# Altium schematic symbol library Gagabiro.SchLib: 77 symbols
Pins are listed as number, name and electrical type; pins without a type are passive.

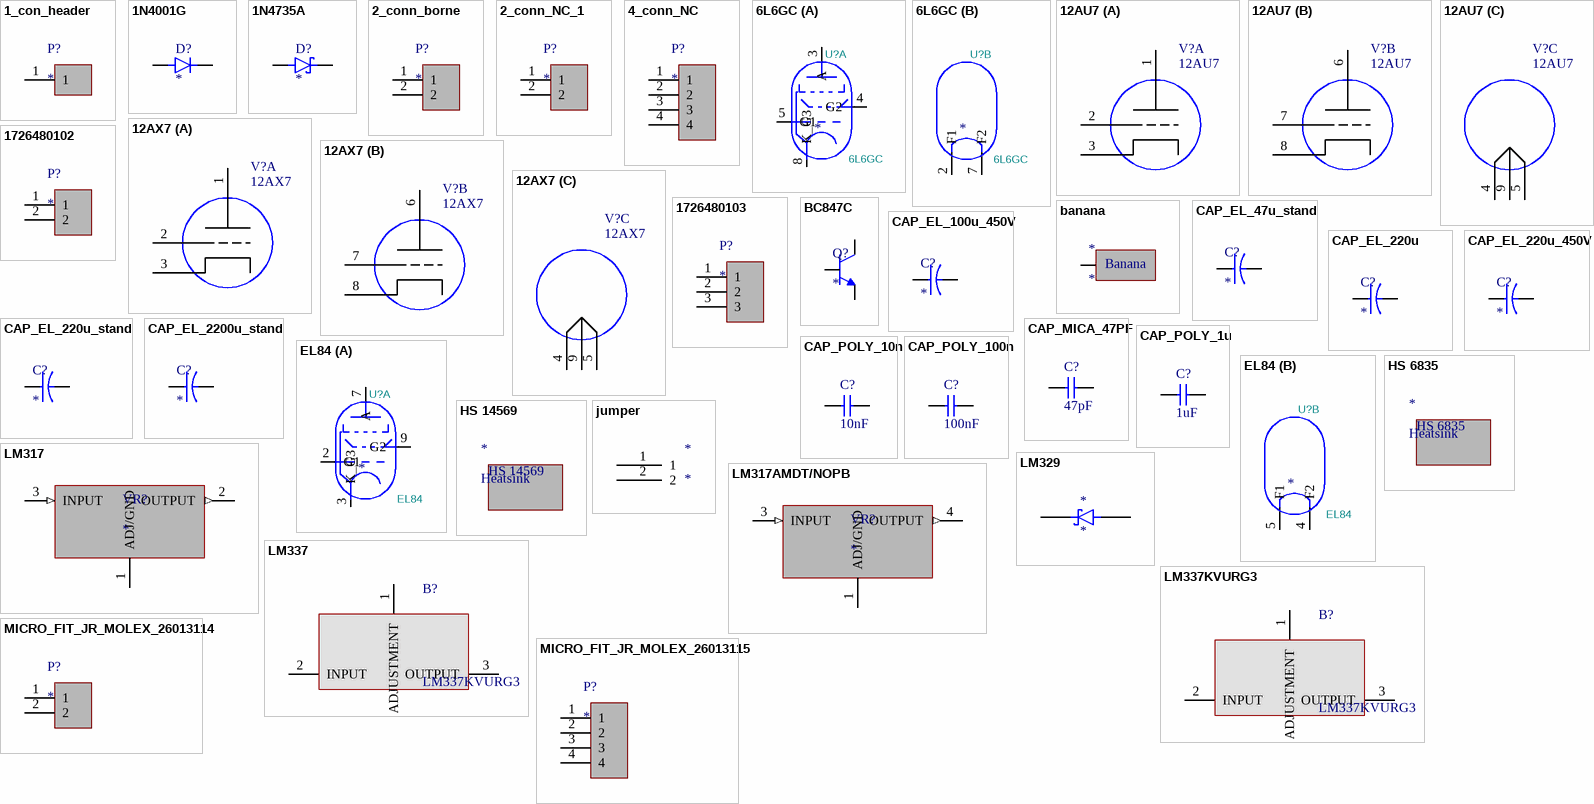
[diagram p0: symbols 1_con_header to MICRO_FIT_JR_MOLEX_26013115]

## 1_con_header
designator P?
Connector Header Surface Mount, Right Angle 2 position 0.079 (2.00mm); MP: S2B-PH-SM4-TB; MF: JST Sales; Price: None; Availability: In Stock; Package: None; Value: *; SnapEDA_Link: https://www.snapeda.com/parts/S2B-PH-SM4-TB/JST+Sales+America+Inc./view-part/?ref=snap; Purchase-URL: https://pricing.snapeda.com/search/part/S2B-PH-SM4-TB/?ref=eda; Check_prices: https://www.snapeda.com/parts/S2B-PH-SM4-TB/JST+Sales+America+Inc./view-part/?ref=eda
footprint SAMTEC_MTMM-101-X-X-S-X
pins: 1

## 1N4001G
designator D?
1A, 50V, Standard Recovery Rectifier; MF: Taiwan Semiconductor; MP: 1N4001G; Package: DO-41-2 Taiwan Semiconductor; Check_prices: https://www.snapeda.com/parts/1N4001G/Taiwan+Semiconductor/view-part/?ref=eda; Value: *; Price: None; Purchase-URL: https://pricing.snapeda.com/search/part/1N4001G/?ref=eda; SnapEDA_Link: https://www.snapeda.com/parts/1N4001G/Taiwan+Semiconductor/view-part/?ref=snap; Availability: In Stock
footprint DIOAD1036W78L470D235
pins: A, C K

## 1N4735A
designator D?
Zener Diode 6.2V 1W Â±5% Through Hole DO-204AL (DO-41); MF: ON Semiconductor; MP: 1N4735A; SnapEDA_Link: https://www.snapeda.com/parts/1N4735A/Onsemi/view-part/?ref=snap; Package: DO-41 ON Semiconductor; Value: *; Check_prices: https://www.snapeda.com/parts/1N4735A/Onsemi/view-part/?ref=eda
footprint DIOAD1036W78L463D272
pins: 1 K, 2 A

## 2_conn_borne
designator P?
Connector Header Surface Mount, Right Angle 2 position 0.079 (2.00mm); MP: S2B-PH-SM4-TB; MF: JST Sales; Price: None; Availability: In Stock; Package: None; Value: *; SnapEDA_Link: https://www.snapeda.com/parts/S2B-PH-SM4-TB/JST+Sales+America+Inc./view-part/?ref=snap; Purchase-URL: https://pricing.snapeda.com/search/part/S2B-PH-SM4-TB/?ref=eda; Check_prices: https://www.snapeda.com/parts/S2B-PH-SM4-TB/JST+Sales+America+Inc./view-part/?ref=eda
footprint 691101710002 (5,00mm - modular - blue - Horizontal entry with pressure clamp - 12,6mm height - 02p)
pins: 1, 2

## 2_conn_NC_1
designator P?
Connector Header Surface Mount, Right Angle 2 position 0.079 (2.00mm); MP: S2B-PH-SM4-TB; MF: JST Sales; Price: None; Availability: In Stock; Package: None; Value: *; SnapEDA_Link: https://www.snapeda.com/parts/S2B-PH-SM4-TB/JST+Sales+America+Inc./view-part/?ref=snap; Purchase-URL: https://pricing.snapeda.com/search/part/S2B-PH-SM4-TB/?ref=eda; Check_prices: https://www.snapeda.com/parts/S2B-PH-SM4-TB/JST+Sales+America+Inc./view-part/?ref=eda
footprint 2_conn_NC
pins: 1, 2

## 4_conn_NC
designator P?
Connector Header Surface Mount, Right Angle 2 position 0.079 (2.00mm); MP: S2B-PH-SM4-TB; MF: JST Sales; Price: None; Availability: In Stock; Package: None; Value: *; SnapEDA_Link: https://www.snapeda.com/parts/S2B-PH-SM4-TB/JST+Sales+America+Inc./view-part/?ref=snap; Purchase-URL: https://pricing.snapeda.com/search/part/S2B-PH-SM4-TB/?ref=eda; Check_prices: https://www.snapeda.com/parts/S2B-PH-SM4-TB/JST+Sales+America+Inc./view-part/?ref=eda
footprint 4_conn_NC
pins: 1, 2, 3, 4

## 6L6GC
designator U?  value 6L6GC
Footprint: Valve:Valve_Noval_P
footprint VALVE-OCTAL
part A pins: 3 A, 4 G2, 5 G1, 8 K_G3
part B pins: 2 F1, 7 F2

## 12AU7
designator V?
TUNGSOL 12AU7 NEW PRD PREAMP TB; MF: RCA; MP: 12AX7; SnapEDA_Link: https://www.snapeda.com/parts/12AX7/RCA/view-part/?ref=snap; Package: None; Check_prices: https://www.snapeda.com/parts/12AX7/RCA/view-part/?ref=eda; Value: *
footprint 12A_7
part A pins: 1, 2, 3
part B pins: 6, 7, 8
part C pins: 4, 5, 9

## 12AX7
designator V?
TUNGSOL 12AX7 NEW PRD PREAMP TB; MF: RCA; SnapEDA_Link: https://www.snapeda.com/parts/12AX7/RCA/view-part/?ref=snap; Package: None; MP: 12AX7; Check_prices: https://www.snapeda.com/parts/12AX7/RCA/view-part/?ref=eda; Value: *
footprint 12A_7
part A pins: 1, 2, 3
part B pins: 6, 7, 8
part C pins: 4, 5, 9

## 1726480102
designator P?
Connector Header Surface Mount, Right Angle 2 position 0.079 (2.00mm); MP: S2B-PH-SM4-TB; MF: JST Sales; Price: None; Availability: In Stock; Package: None; Value: *; SnapEDA_Link: https://www.snapeda.com/parts/S2B-PH-SM4-TB/JST+Sales+America+Inc./view-part/?ref=snap; Purchase-URL: https://pricing.snapeda.com/search/part/S2B-PH-SM4-TB/?ref=eda; Check_prices: https://www.snapeda.com/parts/S2B-PH-SM4-TB/JST+Sales+America+Inc./view-part/?ref=eda
footprint MOLEX_1726480102
pins: 1, 2

## 1726480103
designator P?
Connector Header Surface Mount, Right Angle 2 position 0.079 (2.00mm); MP: S2B-PH-SM4-TB; MF: JST Sales; Price: None; Availability: In Stock; Package: None; Value: *; SnapEDA_Link: https://www.snapeda.com/parts/S2B-PH-SM4-TB/JST+Sales+America+Inc./view-part/?ref=snap; Purchase-URL: https://pricing.snapeda.com/search/part/S2B-PH-SM4-TB/?ref=eda; Check_prices: https://www.snapeda.com/parts/S2B-PH-SM4-TB/JST+Sales+America+Inc./view-part/?ref=eda
footprint MOLEX_1726480103
pins: 1, 2, 3

## banana
designator *
footprint banana
pins: 1
text: Banana

## BC847C
designator Q?
Bipolar (BJT) Transistor NPN 45 V 100 mA 300MHz 250 mW Surface Mount SOT-23-3 (TO-236); MF: Diotec Semiconductor; MP: BC847C; Price: None; SnapEDA_Link: https://www.snapeda.com/parts/BC847C/Diotec/view-part/?ref=snap; Purchase-URL: https://pricing.snapeda.com/search/part/BC847C/?ref=eda; Availability: In Stock; Package: SOT-23-3 Diotec; Check_prices: https://www.snapeda.com/parts/BC847C/Diotec/view-part/?ref=eda; Value: *
footprint TRANS_BC847C
pins: 1 B, 2 E, 3 C

## CAP_EL_47u_stand
designator C?
220F 16V Aluminum Electrolytic Capacitors Radial, Can 1000 Hrs @ 105C; MP: EEU-HD1C221B; Value: 47uF; MF: Panasonic; Availability: In Stock; Purchase-URL: https://pricing.snapeda.com/search/part/EEU-HD1C221B/?ref=eda; Package: RADIAL-2 Panasonic; Check_prices: https://www.snapeda.com/parts/EEU-HD1C221B/Panasonic/view-part/?ref=eda; SnapEDA_Link: https://www.snapeda.com/parts/EEU-HD1C221B/Panasonic/view-part/?ref=snap; Price: None
footprint CAPPRD500W50D630H1120_stand
pins: N, P

## CAP_EL_100u_450V
designator C?
220F 16V Aluminum Electrolytic Capacitors Radial, Can 1000 Hrs @ 105C; MP: EEU-HD1C221B; Value: 100uF; MF: Panasonic; Availability: In Stock; Purchase-URL: https://pricing.snapeda.com/search/part/EEU-HD1C221B/?ref=eda; Package: RADIAL-2 Panasonic; Check_prices: https://www.snapeda.com/parts/EEU-HD1C221B/Panasonic/view-part/?ref=eda; SnapEDA_Link: https://www.snapeda.com/parts/EEU-HD1C221B/Panasonic/view-part/?ref=snap; Price: None
footprint CAPPRD500W50D630H1120_stand_100_450V
pins: N, P

## CAP_EL_220u
designator C?
220F 16V Aluminum Electrolytic Capacitors Radial, Can 1000 Hrs @ 105C; MP: EEU-HD1C221B; Value: 220uF; MF: Panasonic; Availability: In Stock; Purchase-URL: https://pricing.snapeda.com/search/part/EEU-HD1C221B/?ref=eda; Package: RADIAL-2 Panasonic; Check_prices: https://www.snapeda.com/parts/EEU-HD1C221B/Panasonic/view-part/?ref=eda; SnapEDA_Link: https://www.snapeda.com/parts/EEU-HD1C221B/Panasonic/view-part/?ref=snap; Price: None
footprint CAPPRD500W50D630H1120
pins: N, P

## CAP_EL_220u_450V
designator C?
220F 16V Aluminum Electrolytic Capacitors Radial, Can 1000 Hrs @ 105C; MP: EEU-HD1C221B; Value: 220uF; MF: Panasonic; Availability: In Stock; Purchase-URL: https://pricing.snapeda.com/search/part/EEU-HD1C221B/?ref=eda; Package: RADIAL-2 Panasonic; Check_prices: https://www.snapeda.com/parts/EEU-HD1C221B/Panasonic/view-part/?ref=eda; SnapEDA_Link: https://www.snapeda.com/parts/EEU-HD1C221B/Panasonic/view-part/?ref=snap; Price: None
footprint CAPPRD500W50D630H1120_stand_25x50
pins: N, P

## CAP_EL_220u_stand
designator C?
220F 16V Aluminum Electrolytic Capacitors Radial, Can 1000 Hrs @ 105C; MP: EEU-HD1C221B; Value: 220uF; MF: Panasonic; Availability: In Stock; Purchase-URL: https://pricing.snapeda.com/search/part/EEU-HD1C221B/?ref=eda; Package: RADIAL-2 Panasonic; Check_prices: https://www.snapeda.com/parts/EEU-HD1C221B/Panasonic/view-part/?ref=eda; SnapEDA_Link: https://www.snapeda.com/parts/EEU-HD1C221B/Panasonic/view-part/?ref=snap; Price: None
footprint CAPPRD500W50D630H1120_stand
pins: N, P

## CAP_EL_2200u_stand
designator C?
220F 16V Aluminum Electrolytic Capacitors Radial, Can 1000 Hrs @ 105C; MP: EEU-HD1C221B; Value: 2200uF; MF: Panasonic; Availability: In Stock; Purchase-URL: https://pricing.snapeda.com/search/part/EEU-HD1C221B/?ref=eda; Package: RADIAL-2 Panasonic; Check_prices: https://www.snapeda.com/parts/EEU-HD1C221B/Panasonic/view-part/?ref=eda; SnapEDA_Link: https://www.snapeda.com/parts/EEU-HD1C221B/Panasonic/view-part/?ref=snap; Price: None
footprint CAPPRD500W50D630H1120_stand_22x40
pins: N, P

## CAP_MICA_47PF
designator C?, comment 47pF
Capacitor, Silver Mica; Part Number: CMICA_47PF; Value: 47pF
footprint CAP_MICA
pins: 1, 2

## CAP_POLY_1u
designator C?, comment 1uF
Capacitor, Silver Mica; Part Number: CMICA_47PF; Value: 1uF
footprint CAP_panassonic_1u_450V
pins: 1, 2

## CAP_POLY_10n
designator C?, comment 10nF
Capacitor, Silver Mica; Part Number: CMICA_47PF; Value: 10nF
footprint CAP_POLI_103
pins: 1, 2

## CAP_POLY_100n
designator C?, comment 100nF
Capacitor, Silver Mica; Part Number: CMICA_47PF; Value: 100nF
footprint CAP_panassonic_100n_450V
pins: 1, 2

## EL84
designator U?  value EL84
Footprint: Valve:Valve_Noval_P
footprint EL84
part A pins: 2 G1, 3 K_G3, 7 A, 9 G2
part B pins: 4 F2, 5 F1

## HS 6835
designator *, comment Heatsink
footprint heatsink_HS_6835

## HS 14569
designator *, comment Heatsink
footprint heatsink

## jumper
designator *
footprint jumper_AWG18
pins: 1, 2

## LM317
designator VR?
MP: LM317AMDT/NOPB; Package: None; Price: None; Availability: Unavailable; Value: *
footprint TO254P1009X445X1985-3
pins: 1 ADJ/GND (power), 2 OUTPUT (out), 3 INPUT (in)

## LM317AMDT/NOPB
designator VR?
MP: LM317AMDT/NOPB; Package: None; Price: None; Availability: Unavailable; Value: *
footprint TO228P991X255-3N
pins: 1 ADJ/GND (power), 3 INPUT (in), 4 OUTPUT (out)

## LM329
designator *
footprint TO92127P495H495-3
pins: 2 (power), 3 (power)

## LM337
designator B?, comment LM337KVURG3
3 Pin 1.5A Adjustable Negative Voltage Regulator; Manufacturer_Name: Texas Instruments; Geometry.Height: 2.65mm; Mouser Part Number: 595-LM337KVURG3; Mouser Price/Stock: https://www.mouser.co.uk/ProductDetail/Texas-Instruments/LM337KVURG3?qs=iSMark9AYDXYOGB3Dr0rVg%3D%3D; Manufacturer_Part_Number: LM337KVURG3; Datasheet Link: http://www.ti.com/lit/gpn/lm337
footprint lm317
pins: 1 ADJUSTMENT, 2 INPUT, 3 OUTPUT

## LM337KVURG3
designator B?
3 Pin 1.5A Adjustable Negative Voltage Regulator; Manufacturer_Name: Texas Instruments; Geometry.Height: 2.65mm; Mouser Part Number: 595-LM337KVURG3; Mouser Price/Stock: https://www.mouser.co.uk/ProductDetail/Texas-Instruments/LM337KVURG3?qs=iSMark9AYDXYOGB3Dr0rVg%3D%3D; Manufacturer_Part_Number: LM337KVURG3; Datasheet Link: http://www.ti.com/lit/gpn/lm337
footprint LM337KVURG3
pins: 1 ADJUSTMENT, 2 INPUT, 3 OUTPUT

## MICRO_FIT_JR_MOLEX_26013114
designator P?
Connector Header Surface Mount, Right Angle 2 position 0.079 (2.00mm); MP: S2B-PH-SM4-TB; MF: JST Sales; Price: None; Availability: In Stock; Package: None; Value: *; SnapEDA_Link: https://www.snapeda.com/parts/S2B-PH-SM4-TB/JST+Sales+America+Inc./view-part/?ref=snap; Purchase-URL: https://pricing.snapeda.com/search/part/S2B-PH-SM4-TB/?ref=eda; Check_prices: https://www.snapeda.com/parts/S2B-PH-SM4-TB/JST+Sales+America+Inc./view-part/?ref=eda
footprint MOLEX_26013114
pins: 1, 2

## MICRO_FIT_JR_MOLEX_26013115
designator P?
Connector Header Surface Mount, Right Angle 2 position 0.079 (2.00mm); MP: S2B-PH-SM4-TB; MF: JST Sales; Price: None; Availability: In Stock; Package: None; Value: *; SnapEDA_Link: https://www.snapeda.com/parts/S2B-PH-SM4-TB/JST+Sales+America+Inc./view-part/?ref=snap; Purchase-URL: https://pricing.snapeda.com/search/part/S2B-PH-SM4-TB/?ref=eda; Check_prices: https://www.snapeda.com/parts/S2B-PH-SM4-TB/JST+Sales+America+Inc./view-part/?ref=eda
footprint MOLEX_26013115
pins: 1, 2, 3, 4

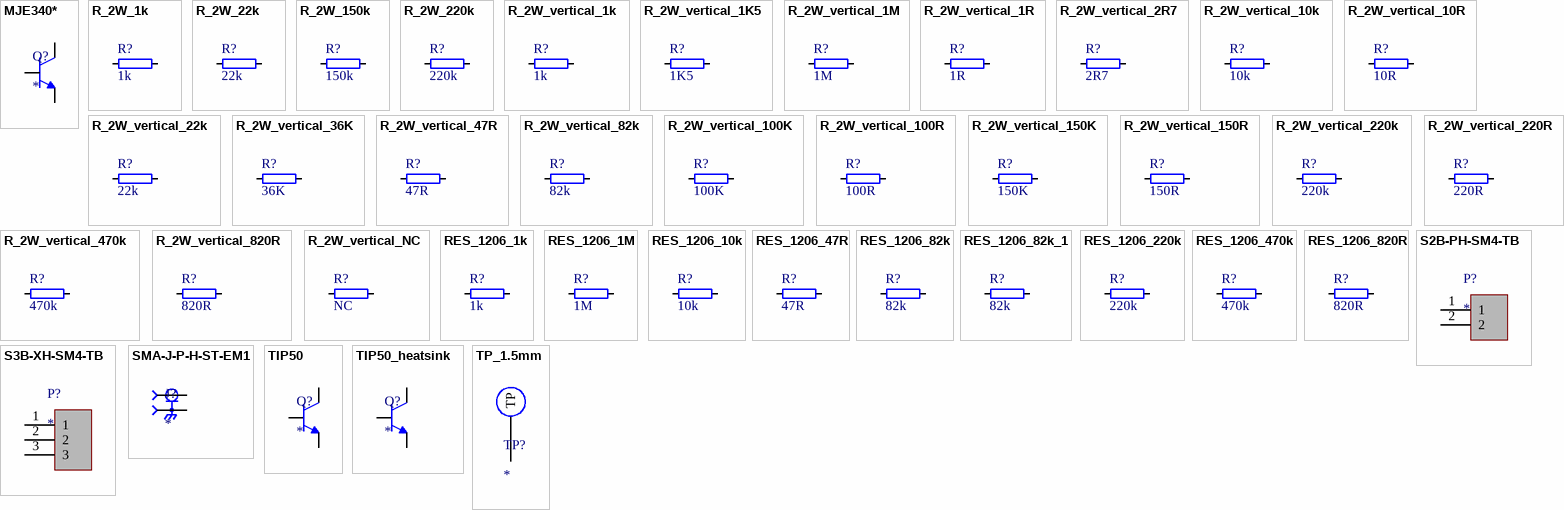
[diagram p1: symbols MJE340* to TP_1.5mm]

## MJE340*
designator Q?
Bipolar (BJT) Transistor NPN 300 V 500 mA - 20.8 W Through Hole SOT-32-3; MF: STMicroelectronics; MP: MJE340; SnapEDA_Link: https://www.snapeda.com/parts/MJE340/STMicroelectronics/view-part/?ref=snap; Package: TO-126-3 Motorola; Value: *; Check_prices: https://www.snapeda.com/parts/MJE340/STMicroelectronics/view-part/?ref=eda
footprint TO126
pins: 1 E, 2 C, 3 B

## R_2W_1k
designator R?, comment 1k
Resistor, 2W; Part Number: R2W; ComponentLink1URL: N.A.; ComponentLink1Description: Datasheet; ComponentLink2URL: N.A.; ComponentLink2Description: Supplier link; Author: colombari; Value: 1k
footprint RES_2W
pins: 1, 2

## R_2W_22k
designator R?, comment 22k
Resistor, 2W; Part Number: R2W; ComponentLink1URL: N.A.; ComponentLink1Description: Datasheet; ComponentLink2URL: N.A.; ComponentLink2Description: Supplier link; Author: colombari; Value: 22k
footprint RES_2W
pins: 1, 2

## R_2W_150k
designator R?, comment 150k
Resistor, 2W; Part Number: R2W; ComponentLink1URL: N.A.; ComponentLink1Description: Datasheet; ComponentLink2URL: N.A.; ComponentLink2Description: Supplier link; Author: colombari; Value: 150k
footprint RES_2W
pins: 1, 2

## R_2W_220k
designator R?, comment 220k
Resistor, 2W; Part Number: R2W; ComponentLink1URL: N.A.; ComponentLink1Description: Datasheet; ComponentLink2URL: N.A.; ComponentLink2Description: Supplier link; Author: colombari; Value: 220k
footprint RES_2W
pins: 1, 2

## R_2W_vertical_1k
designator R?, comment 1k
Resistor, 2W; Part Number: R2W; ComponentLink1URL: N.A.; ComponentLink1Description: Datasheet; ComponentLink2URL: N.A.; ComponentLink2Description: Supplier link; Author: colombari; Value: 1k
footprint RES_2W_vertical
pins: 1, 2

## R_2W_vertical_1K5
designator R?, comment 1K5
Resistor, 2W; Part Number: R2W; ComponentLink1URL: N.A.; ComponentLink1Description: Datasheet; ComponentLink2URL: N.A.; ComponentLink2Description: Supplier link; Author: colombari; Value: 1K5
footprint RES_2W_vertical
pins: 1, 2

## R_2W_vertical_1M
designator R?, comment 1M
Resistor, 2W; Part Number: R2W; ComponentLink1URL: N.A.; ComponentLink1Description: Datasheet; ComponentLink2URL: N.A.; ComponentLink2Description: Supplier link; Author: colombari; Value: 1M
footprint RES_2W_vertical
pins: 1, 2

## R_2W_vertical_1R
designator R?, comment 1R
Resistor, 2W; Part Number: R2W; ComponentLink1URL: N.A.; ComponentLink1Description: Datasheet; ComponentLink2URL: N.A.; ComponentLink2Description: Supplier link; Author: colombari; Value: 1R
footprint RES_2W_vertical
pins: 1, 2

## R_2W_vertical_2R7
designator R?, comment 2R7
Resistor, 2W; Part Number: R2W; ComponentLink1URL: N.A.; ComponentLink1Description: Datasheet; ComponentLink2URL: N.A.; ComponentLink2Description: Supplier link; Author: colombari; Value: 2R7
footprint RES_2W_vertical
pins: 1, 2

## R_2W_vertical_10k
designator R?, comment 10k
Resistor, 2W; Part Number: R2W; ComponentLink1URL: N.A.; ComponentLink1Description: Datasheet; ComponentLink2URL: N.A.; ComponentLink2Description: Supplier link; Author: colombari; Value: 10k
footprint RES_2W_vertical
pins: 1, 2

## R_2W_vertical_10R
designator R?, comment 10R
Resistor, 2W; Part Number: R2W; ComponentLink1URL: N.A.; ComponentLink1Description: Datasheet; ComponentLink2URL: N.A.; ComponentLink2Description: Supplier link; Author: colombari; Value: 10R
footprint RES_2W_vertical
pins: 1, 2

## R_2W_vertical_22k
designator R?, comment 22k
Resistor, 2W; Part Number: R2W; ComponentLink1URL: N.A.; ComponentLink1Description: Datasheet; ComponentLink2URL: N.A.; ComponentLink2Description: Supplier link; Author: colombari; Value: 22k
footprint RES_2W_vertical
pins: 1, 2

## R_2W_vertical_36K
designator R?, comment 36K
Resistor, 2W; Part Number: R2W; ComponentLink1URL: N.A.; ComponentLink1Description: Datasheet; ComponentLink2URL: N.A.; ComponentLink2Description: Supplier link; Author: colombari; Value: 36K
footprint RES_2W_vertical
pins: 1, 2

## R_2W_vertical_47R
designator R?, comment 47R
Resistor, 2W; Part Number: R2W; ComponentLink1URL: N.A.; ComponentLink1Description: Datasheet; ComponentLink2URL: N.A.; ComponentLink2Description: Supplier link; Author: colombari; Value: 47R
footprint RES_2W_vertical
pins: 1, 2

## R_2W_vertical_82k
designator R?, comment 82k
Resistor, 2W; Part Number: R2W; ComponentLink1URL: N.A.; ComponentLink1Description: Datasheet; ComponentLink2URL: N.A.; ComponentLink2Description: Supplier link; Author: colombari; Value: 82k
footprint RES_2W_vertical
pins: 1, 2

## R_2W_vertical_100K
designator R?, comment 100K
Resistor, 2W; Part Number: R2W; ComponentLink1URL: N.A.; ComponentLink1Description: Datasheet; ComponentLink2URL: N.A.; ComponentLink2Description: Supplier link; Author: colombari; Value: 100K
footprint RES_2W_vertical
pins: 1, 2

## R_2W_vertical_100R
designator R?, comment 100R
Resistor, 2W; Part Number: R2W; ComponentLink1URL: N.A.; ComponentLink1Description: Datasheet; ComponentLink2URL: N.A.; ComponentLink2Description: Supplier link; Author: colombari; Value: 100R
footprint RES_2W_vertical
pins: 1, 2

## R_2W_vertical_150K
designator R?, comment 150K
Resistor, 2W; Part Number: R2W; ComponentLink1URL: N.A.; ComponentLink1Description: Datasheet; ComponentLink2URL: N.A.; ComponentLink2Description: Supplier link; Author: colombari; Value: 150K
footprint RES_2W_vertical
pins: 1, 2

## R_2W_vertical_150R
designator R?, comment 150R
Resistor, 2W; Part Number: R2W; ComponentLink1URL: N.A.; ComponentLink1Description: Datasheet; ComponentLink2URL: N.A.; ComponentLink2Description: Supplier link; Author: colombari; Value: 150R
footprint RES_2W_vertical
pins: 1, 2

## R_2W_vertical_220k
designator R?, comment 220k
Resistor, 2W; Part Number: R2W; ComponentLink1URL: N.A.; ComponentLink1Description: Datasheet; ComponentLink2URL: N.A.; ComponentLink2Description: Supplier link; Author: colombari; Value: 220k
footprint RES_2W_vertical
pins: 1, 2

## R_2W_vertical_220R
designator R?, comment 220R
Resistor, 2W; Part Number: R2W; ComponentLink1URL: N.A.; ComponentLink1Description: Datasheet; ComponentLink2URL: N.A.; ComponentLink2Description: Supplier link; Author: colombari; Value: 220R
footprint RES_2W_vertical
pins: 1, 2

## R_2W_vertical_470k
designator R?, comment 470k
Resistor, 2W; Part Number: R2W; ComponentLink1URL: N.A.; ComponentLink1Description: Datasheet; ComponentLink2URL: N.A.; ComponentLink2Description: Supplier link; Author: colombari; Value: 470k
footprint RES_2W_vertical
pins: 1, 2

## R_2W_vertical_820R
designator R?, comment 820R
Resistor, 2W; Part Number: R2W; ComponentLink1URL: N.A.; ComponentLink1Description: Datasheet; ComponentLink2URL: N.A.; ComponentLink2Description: Supplier link; Author: colombari; Value: 820R
footprint RES_2W_vertical
pins: 1, 2

## R_2W_vertical_NC
designator R?, comment NC
Resistor, 2W; Part Number: R2W; ComponentLink1URL: N.A.; ComponentLink1Description: Datasheet; ComponentLink2URL: N.A.; ComponentLink2Description: Supplier link; Author: colombari; Value: NC
footprint RES_2W_vertical
pins: 1, 2

## RES_1206_1k
designator R?, comment 1k
Resistor, ±1%, 0.05W; Part Number: R0201-470; Manufacturer: N.A.; Note: Chip Res 1%; Pad Count: 2; Manufacturer Part Number: N.A.; ComponentLink1URL: N.A.; ComponentLink1Description: Datasheet; ComponentLink2URL: N.A.; ComponentLink2Description: Supplier link; HelpURL: N.A.; Footprint Doc: 0201; LatestRevisionDate: 2014-11-13; Published: 2014-11-13; Value: 1k; Artikkelnr Noca: N.A.; Part number IPS: N.A.; Supplier 1: N.A.; Supplier Part Number 1: N.A.; Supplier 2: N.A.; Supplier Part Number 2: N.A.; Component Class: Resistors; PartId: 100100037; Author: rsk; Part number Norautron: N.A.
footprint RES_ERJU08J154V
pins: 1, 2

## RES_1206_1M
designator R?, comment 1M
Resistor, ±1%, 0.05W; Part Number: R0201-470; Manufacturer: N.A.; Note: Chip Res 1%; Pad Count: 2; Manufacturer Part Number: N.A.; ComponentLink1URL: N.A.; ComponentLink1Description: Datasheet; ComponentLink2URL: N.A.; ComponentLink2Description: Supplier link; HelpURL: N.A.; Footprint Doc: 0201; LatestRevisionDate: 2014-11-13; Published: 2014-11-13; Value: 1M; Artikkelnr Noca: N.A.; Part number IPS: N.A.; Supplier 1: N.A.; Supplier Part Number 1: N.A.; Supplier 2: N.A.; Supplier Part Number 2: N.A.; Component Class: Resistors; PartId: 100100037; Author: rsk; Part number Norautron: N.A.
footprint RES_ERJU08J154V
pins: 1, 2

## RES_1206_10k
designator R?, comment 10k
Resistor, ±1%, 0.05W; Part Number: R0201-470; Manufacturer: N.A.; Note: Chip Res 1%; Pad Count: 2; Manufacturer Part Number: N.A.; ComponentLink1URL: N.A.; ComponentLink1Description: Datasheet; ComponentLink2URL: N.A.; ComponentLink2Description: Supplier link; HelpURL: N.A.; Footprint Doc: 0201; LatestRevisionDate: 2014-11-13; Published: 2014-11-13; Value: 10k; Artikkelnr Noca: N.A.; Part number IPS: N.A.; Supplier 1: N.A.; Supplier Part Number 1: N.A.; Supplier 2: N.A.; Supplier Part Number 2: N.A.; Component Class: Resistors; PartId: 100100037; Author: rsk; Part number Norautron: N.A.
footprint RES_ERJU08J154V
pins: 1, 2

## RES_1206_47R
designator R?, comment 47R
Resistor, ±1%, 0.05W; Part Number: R0201-470; Manufacturer: N.A.; Note: Chip Res 1%; Pad Count: 2; Manufacturer Part Number: N.A.; ComponentLink1URL: N.A.; ComponentLink1Description: Datasheet; ComponentLink2URL: N.A.; ComponentLink2Description: Supplier link; HelpURL: N.A.; Footprint Doc: 0201; LatestRevisionDate: 2014-11-13; Published: 2014-11-13; Value: 47R; Artikkelnr Noca: N.A.; Part number IPS: N.A.; Supplier 1: N.A.; Supplier Part Number 1: N.A.; Supplier 2: N.A.; Supplier Part Number 2: N.A.; Component Class: Resistors; PartId: 100100037; Author: rsk; Part number Norautron: N.A.
footprint RES_ERJU08J154V
pins: 1, 2

## RES_1206_82k
designator R?, comment 82k
Resistor, ±1%, 0.05W; Part Number: R0201-470; Manufacturer: N.A.; Note: Chip Res 1%; Pad Count: 2; Manufacturer Part Number: N.A.; ComponentLink1URL: N.A.; ComponentLink1Description: Datasheet; ComponentLink2URL: N.A.; ComponentLink2Description: Supplier link; HelpURL: N.A.; Footprint Doc: 0201; LatestRevisionDate: 2014-11-13; Published: 2014-11-13; Value: 82k; Artikkelnr Noca: N.A.; Part number IPS: N.A.; Supplier 1: N.A.; Supplier Part Number 1: N.A.; Supplier 2: N.A.; Supplier Part Number 2: N.A.; Component Class: Resistors; PartId: 100100037; Author: rsk; Part number Norautron: N.A.
footprint RES_ERJU08J154V
pins: 1, 2

## RES_1206_82k_1
designator R?, comment 82k
Resistor, ±1%, 0.05W; Part Number: R0201-470; Manufacturer: N.A.; Note: Chip Res 1%; Pad Count: 2; Manufacturer Part Number: N.A.; ComponentLink1URL: N.A.; ComponentLink1Description: Datasheet; ComponentLink2URL: N.A.; ComponentLink2Description: Supplier link; HelpURL: N.A.; Footprint Doc: 0201; LatestRevisionDate: 2014-11-13; Published: 2014-11-13; Value: 82k; Artikkelnr Noca: N.A.; Part number IPS: N.A.; Supplier 1: N.A.; Supplier Part Number 1: N.A.; Supplier 2: N.A.; Supplier Part Number 2: N.A.; Component Class: Resistors; PartId: 100100037; Author: rsk; Part number Norautron: N.A.
footprint RES_ERJU08J154V
pins: 1, 2

## RES_1206_220k
designator R?, comment 220k
Resistor, ±1%, 0.05W; Part Number: R0201-470; Manufacturer: N.A.; Note: Chip Res 1%; Pad Count: 2; Manufacturer Part Number: N.A.; ComponentLink1URL: N.A.; ComponentLink1Description: Datasheet; ComponentLink2URL: N.A.; ComponentLink2Description: Supplier link; HelpURL: N.A.; Footprint Doc: 0201; LatestRevisionDate: 2014-11-13; Published: 2014-11-13; Value: 220k; Artikkelnr Noca: N.A.; Part number IPS: N.A.; Supplier 1: N.A.; Supplier Part Number 1: N.A.; Supplier 2: N.A.; Supplier Part Number 2: N.A.; Component Class: Resistors; PartId: 100100037; Author: rsk; Part number Norautron: N.A.
footprint RES_ERJU08J154V
pins: 1, 2

## RES_1206_470k
designator R?, comment 470k
Resistor, ±1%, 0.05W; Part Number: R0201-470; Manufacturer: N.A.; Note: Chip Res 1%; Pad Count: 2; Manufacturer Part Number: N.A.; ComponentLink1URL: N.A.; ComponentLink1Description: Datasheet; ComponentLink2URL: N.A.; ComponentLink2Description: Supplier link; HelpURL: N.A.; Footprint Doc: 0201; LatestRevisionDate: 2014-11-13; Published: 2014-11-13; Value: 470k; Artikkelnr Noca: N.A.; Part number IPS: N.A.; Supplier 1: N.A.; Supplier Part Number 1: N.A.; Supplier 2: N.A.; Supplier Part Number 2: N.A.; Component Class: Resistors; PartId: 100100037; Author: rsk; Part number Norautron: N.A.
footprint RES_ERJU08J154V
pins: 1, 2

## RES_1206_820R
designator R?, comment 820R
Resistor, ±1%, 0.05W; Part Number: R0201-470; Manufacturer: N.A.; Note: Chip Res 1%; Pad Count: 2; Manufacturer Part Number: N.A.; ComponentLink1URL: N.A.; ComponentLink1Description: Datasheet; ComponentLink2URL: N.A.; ComponentLink2Description: Supplier link; HelpURL: N.A.; Footprint Doc: 0201; LatestRevisionDate: 2014-11-13; Published: 2014-11-13; Value: 820R; Artikkelnr Noca: N.A.; Part number IPS: N.A.; Supplier 1: N.A.; Supplier Part Number 1: N.A.; Supplier 2: N.A.; Supplier Part Number 2: N.A.; Component Class: Resistors; PartId: 100100037; Author: rsk; Part number Norautron: N.A.
footprint RES_ERJU08J154V
pins: 1, 2

## S2B-PH-SM4-TB
designator P?
Connector Header Surface Mount, Right Angle 2 position 0.079 (2.00mm); MP: S2B-PH-SM4-TB; MF: JST Sales; Price: None; Availability: In Stock; Package: None; Value: *; SnapEDA_Link: https://www.snapeda.com/parts/S2B-PH-SM4-TB/JST+Sales+America+Inc./view-part/?ref=snap; Purchase-URL: https://pricing.snapeda.com/search/part/S2B-PH-SM4-TB/?ref=eda; Check_prices: https://www.snapeda.com/parts/S2B-PH-SM4-TB/JST+Sales+America+Inc./view-part/?ref=eda
footprint JST_S2B-PH-SM4-TB
pins: 1, 2

## S3B-XH-SM4-TB
designator P?
Connector Header Surface Mount, Right Angle 2 position 0.079 (2.00mm); MP: S2B-PH-SM4-TB; MF: JST Sales; Price: None; Availability: In Stock; Package: None; Value: *; SnapEDA_Link: https://www.snapeda.com/parts/S2B-PH-SM4-TB/JST+Sales+America+Inc./view-part/?ref=snap; Purchase-URL: https://pricing.snapeda.com/search/part/S2B-PH-SM4-TB/?ref=eda; Check_prices: https://www.snapeda.com/parts/S2B-PH-SM4-TB/JST+Sales+America+Inc./view-part/?ref=eda
footprint JST-S3B-XH-SM4-TB
pins: 1, 2, 3

## SMA-J-P-H-ST-EM1
designator J?
SMA Connector Jack, Female Socket 50Ohm Board Edge, End Launch Solder; MF: Samtec; MP: SMA-J-P-H-ST-EM1; Package: None; Price: None; Value: *; Availability: Unavailable
footprint SAMTEC_SMA-J-P-H-ST-EM1
pins: 1, 2_1 2, 2_2 2, 3_1 2, 3_2 2

## TIP50
designator Q?
Bipolar (BJT) Transistor NPN 400 V 1 A 10MHz 2 W Through Hole TO-220-3; MF: ON Semiconductor; MP: TIP50; Price: None; SnapEDA_Link: https://www.snapeda.com/parts/TIP50/Onsemi/view-part/?ref=snap; Availability: In Stock; Value: *; Purchase-URL: https://pricing.snapeda.com/search/part/TIP50/?ref=eda; Package: TO-220-3 onsemi; Check_prices: https://www.snapeda.com/parts/TIP50/Onsemi/view-part/?ref=eda
footprint TO254P1009X445X1985-3
pins: 1 B, 2 C, 3 E

## TIP50_heatsink
designator Q?
Bipolar (BJT) Transistor NPN 400 V 1 A 10MHz 2 W Through Hole TO-220-3; MF: ON Semiconductor; MP: TIP50; Price: None; SnapEDA_Link: https://www.snapeda.com/parts/TIP50/Onsemi/view-part/?ref=snap; Availability: In Stock; Value: *; Purchase-URL: https://pricing.snapeda.com/search/part/TIP50/?ref=eda; Package: TO-220-3 onsemi; Check_prices: https://www.snapeda.com/parts/TIP50/Onsemi/view-part/?ref=eda
footprint TO254P1009X445X1985-3_heatsink
pins: 1 B, 2 C, 3 E

## TP_1.5mm
designator TP?
footprint test_point_1.5mm
pins: 1 TP

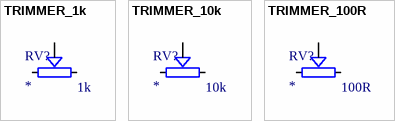
[diagram p2: symbols TRIMMER_1k to TRIMMER_100R]

## TRIMMER_1k
designator RV?  value 1k
TRIMMER; MF: Bourns Electronics; MP: PV36W204C01B00.; SnapEDA_Link: https://www.snapeda.com/parts/PV36W204C01B00./Bourns/view-part/?ref=snap; Package: None; Check_prices: https://www.snapeda.com/parts/PV36W204C01B00./Bourns/view-part/?ref=eda
footprint TRIM_PV36W204C01B00 - duplicate
pins: 1, 2, 3

## TRIMMER_10k
designator RV?  value 10k
TRIMMER; MF: Bourns Electronics; MP: PV36W204C01B00.; SnapEDA_Link: https://www.snapeda.com/parts/PV36W204C01B00./Bourns/view-part/?ref=snap; Package: None; Check_prices: https://www.snapeda.com/parts/PV36W204C01B00./Bourns/view-part/?ref=eda
footprint TRIM_PV36W204C01B00 - duplicate
pins: 1, 2, 3

## TRIMMER_100R
designator RV?  value 100R
TRIMMER; MF: Bourns Electronics; MP: PV36W204C01B00.; SnapEDA_Link: https://www.snapeda.com/parts/PV36W204C01B00./Bourns/view-part/?ref=snap; Package: None; Check_prices: https://www.snapeda.com/parts/PV36W204C01B00./Bourns/view-part/?ref=eda
footprint TRIM_PV36W204C01B00 - duplicate
pins: 1, 2, 3